# Altium integrated library NSC LDO.IntLib: 1202 symbols (part 10 of 27)
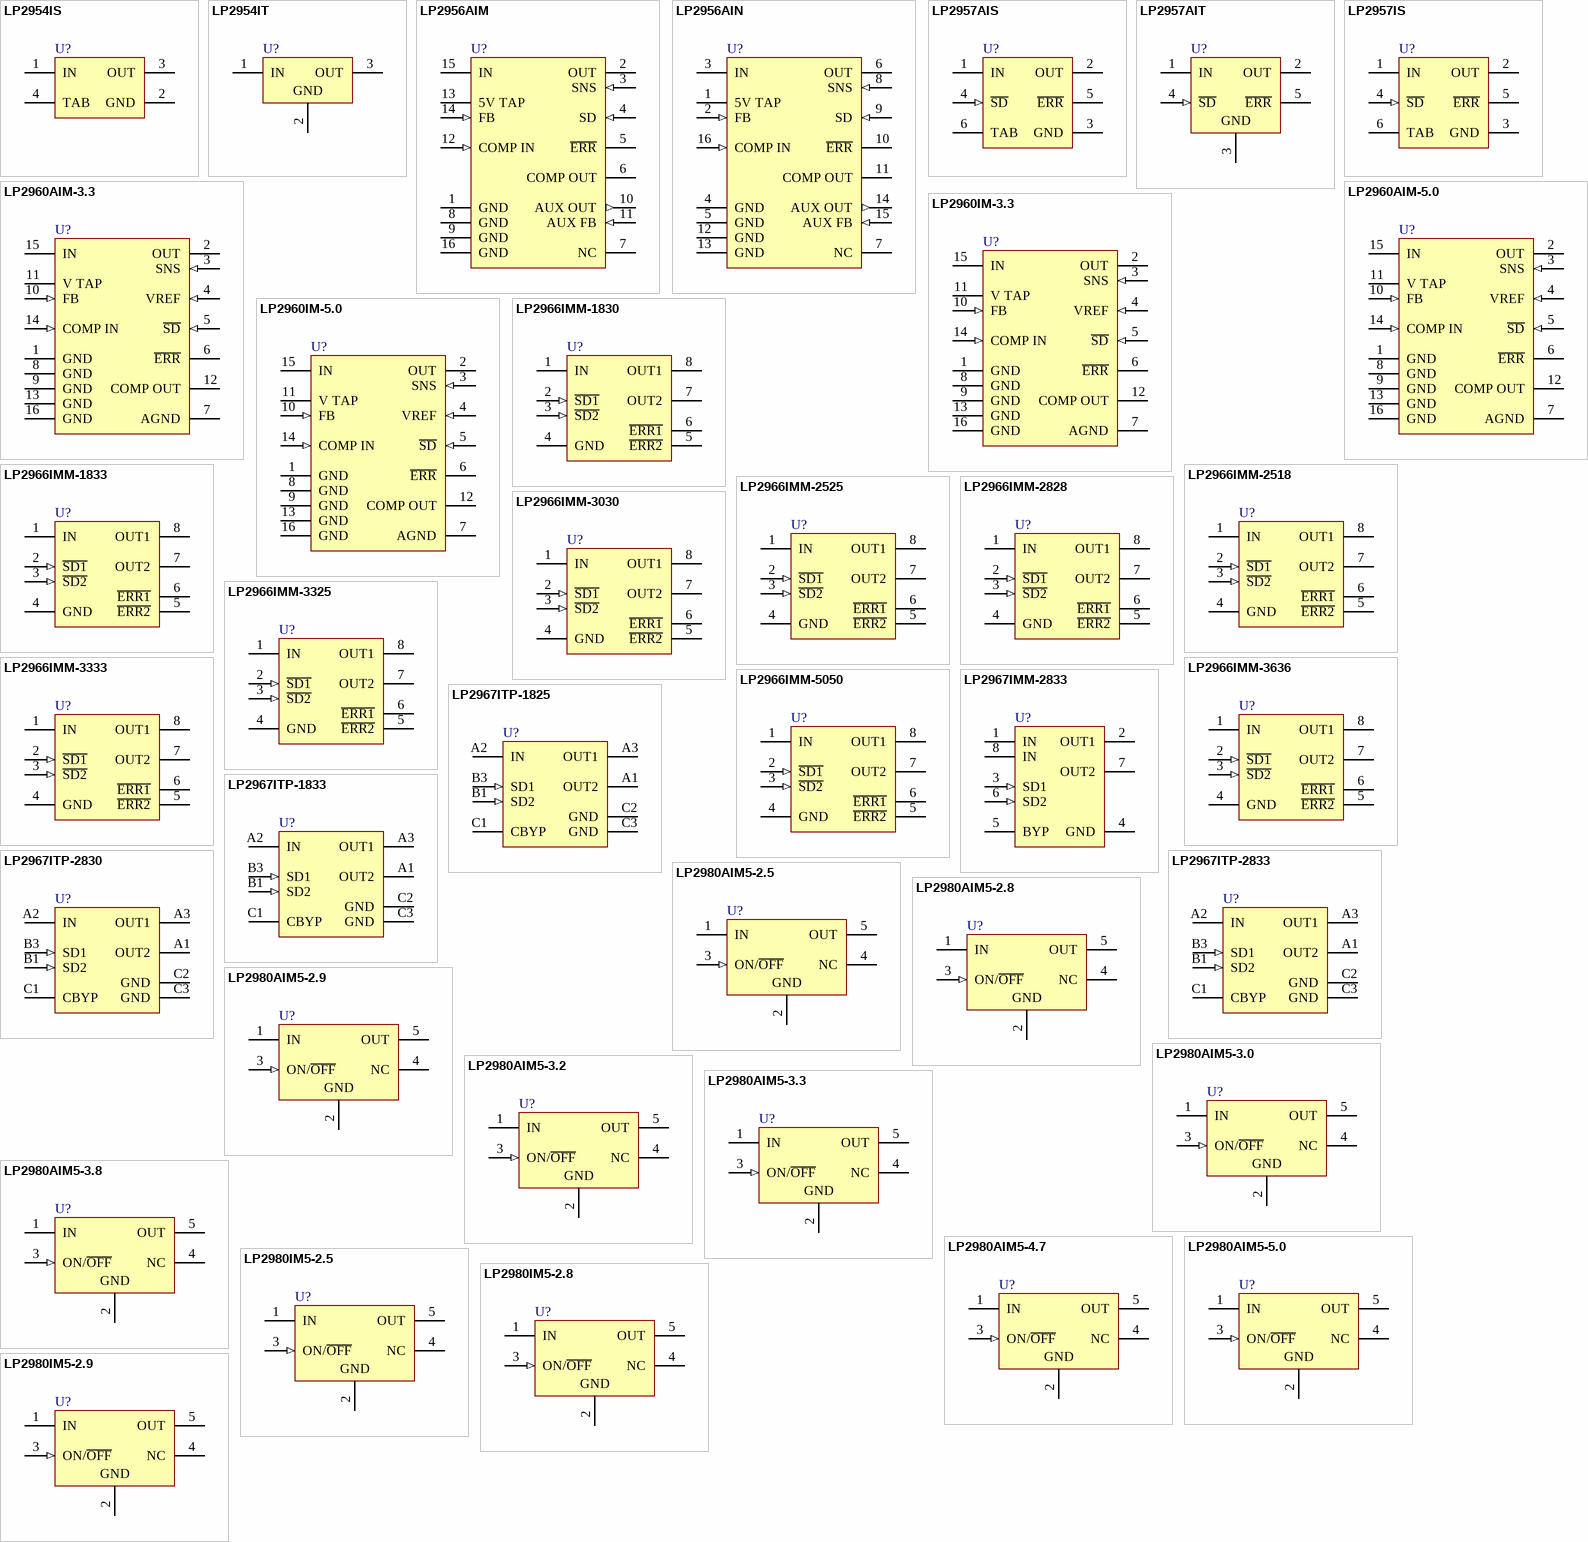
[diagram p39: symbols LP2954IS to LP2980IM5-2.9]

## LP2967ITP-2830
designator U?
Dual Micropower 150 mA Low-Dropout Regulator in micro SMD Package; PartNumber: LP2967ITP-2830; Manufacturer: National Semiconductor; CompType: LDO IC; PackageTopMarking: XVL*I 22; Published: 4-Dec-2008; DatasheetVersion: Jun-2005; PackageVersion: revA, Mar-2002; PackageReference: TPA08F5A; Publisher: Altium Limited; PackageDescription: Thin Micro SMD, 8 Bump, 0.5mm Pitch; RoHS: Y; PinCount: 8; DigiKeyPartNumber: LP2967ITP-2830CT-ND; Code_JEDEC: MO-211-BC; ComponentLink1Description: LP2967 Datasheet; ComponentLink1URL: http://www.national.com/ds/LP/LP2967.pdf; ComponentLink2Description: LP2967 Web Page; ComponentLink2URL: http://www.national.com/pf/LP/LP2967.html; ComponentLink3Description: TPA08F5A Package Page; ComponentLink3URL: http://www.national.com/packaging/folders/tpa08f5a.html
footprint TPA08F5A (Micro SMD, 8-Leads, Body 1.95x1.41mm, Pitch 0.5mm, NSC Recommended)
pins: A1 OUT2 (power), A2 IN (power), A3 OUT1 (power), B1 SD2 (in), B3 SD1 (in), C1 CBYP, C2 GND (power), C3 GND (power)

## LP2967ITP-2833
designator U?
Dual Micropower 150 mA Low-Dropout Regulator in micro SMD Package; PartNumber: LP2967ITP-2833; Manufacturer: National Semiconductor; CompType: LDO IC; PackageTopMarking: XVL*I 09; Published: 4-Dec-2008; DatasheetVersion: Jun-2005; PackageVersion: revA, Mar-2002; PackageReference: TPA08F5A; Publisher: Altium Limited; PackageDescription: Thin Micro SMD, 8 Bump, 0.5mm Pitch; RoHS: Y; PinCount: 8; DigiKeyPartNumber: LP2967ITP-2833CT-ND; Code_JEDEC: MO-211-BC; ComponentLink1Description: LP2967 Datasheet; ComponentLink1URL: http://www.national.com/ds/LP/LP2967.pdf; ComponentLink2Description: LP2967 Web Page; ComponentLink2URL: http://www.national.com/pf/LP/LP2967.html; ComponentLink3Description: TPA08F5A Package Page; ComponentLink3URL: http://www.national.com/packaging/folders/tpa08f5a.html
footprint TPA08F5A (Micro SMD, 8-Leads, Body 1.95x1.41mm, Pitch 0.5mm, NSC Recommended)
pins: A1 OUT2 (power), A2 IN (power), A3 OUT1 (power), B1 SD2 (in), B3 SD1 (in), C1 CBYP, C2 GND (power), C3 GND (power)

## LP2980AIM5-2.5
designator U?
Micropower 50 mA Ultra Low-Dropout Regulator In SOT-23 and micro SMD Packages; PartNumber: LP2980AIM5-2.5; Manufacturer: National Semiconductor; CompType: LDO IC; PackageTopMarking: L0NA*XTT; Published: 4-Dec-2008; DatasheetVersion: Sep-2006; PackageVersion: revD, Aug-2008; PackageReference: MF05A; Publisher: Altium Limited; PackageDescription: Molded SOT-23, .115 x .063 x .040 in Body, 5 Lead, .0375 in Pitch; RoHS: O; PinCount: 5; DigiKeyPartNumber: LP2980AIM5-2.5CT-ND; Code_IPC: SOT23-5; ComponentLink1Description: LP2980 Datasheet; ComponentLink1URL: http://www.national.com/ds/LP/LP2980.pdf; ComponentLink2Description: LP2980 Web Page; ComponentLink2URL: http://www.national.com/pf/LP/LP2980.html; ComponentLink3Description: MF05A Package Page; ComponentLink3URL: http://www.national.com/packaging/folders/mf05a.html
footprint MF05A_N (SOT23, 5-Leads, Body 2.9x1.6mm, Pitch 0.95mm, Lead Span 2.8mm, IPC Medium Density)
footprint MF05A_L (SOT23, 5-Leads, Body 2.9x1.6mm, Pitch 0.95mm, Lead Span 2.8mm, IPC High Density)
footprint MF05A_M (SOT23, 5-Leads, Body 2.9x1.6mm, Pitch 0.95mm, Lead Span 2.8mm, IPC Low Density)
pins: 1 IN (power), 2 GND (power), 3 ON/~{OFF} (in), 4 NC, 5 OUT (power)

## LP2980AIM5-2.8
designator U?
Micropower 50 mA Ultra Low-Dropout Regulator In SOT-23 and micro SMD Packages; PartNumber: LP2980AIM5-2.8; Manufacturer: National Semiconductor; CompType: LDO IC; PackageTopMarking: L13A*XTT; Published: 4-Dec-2008; DatasheetVersion: Sep-2006; PackageVersion: revD, Aug-2008; PackageReference: MF05A; Publisher: Altium Limited; PackageDescription: Molded SOT-23, .115 x .063 x .040 in Body, 5 Lead, .0375 in Pitch; RoHS: Y; PinCount: 5; DigiKeyPartNumber: LP2980AIM5-2.8-ND; Code_IPC: SOT23-5; ComponentLink1Description: LP2980 Datasheet; ComponentLink1URL: http://www.national.com/ds/LP/LP2980.pdf; ComponentLink2Description: LP2980 Web Page; ComponentLink2URL: http://www.national.com/pf/LP/LP2980.html; ComponentLink3Description: MF05A Package Page; ComponentLink3URL: http://www.national.com/packaging/folders/mf05a.html
footprint MF05A_N (SOT23, 5-Leads, Body 2.9x1.6mm, Pitch 0.95mm, Lead Span 2.8mm, IPC Medium Density)
footprint MF05A_L (SOT23, 5-Leads, Body 2.9x1.6mm, Pitch 0.95mm, Lead Span 2.8mm, IPC High Density)
footprint MF05A_M (SOT23, 5-Leads, Body 2.9x1.6mm, Pitch 0.95mm, Lead Span 2.8mm, IPC Low Density)
pins: 1 IN (power), 2 GND (power), 3 ON/~{OFF} (in), 4 NC, 5 OUT (power)

## LP2980AIM5-2.9
designator U?
Micropower 50 mA Ultra Low-Dropout Regulator In SOT-23 and micro SMD Packages; PartNumber: LP2980AIM5-2.9; Manufacturer: National Semiconductor; CompType: LDO IC; PackageTopMarking: L12A*XTT; Published: 4-Dec-2008; DatasheetVersion: Sep-2006; PackageVersion: revD, Aug-2008; PackageReference: MF05A; Publisher: Altium Limited; PackageDescription: Molded SOT-23, .115 x .063 x .040 in Body, 5 Lead, .0375 in Pitch; RoHS: Y; PinCount: 5; DigiKeyPartNumber: LP2980AIM5-2.9-ND; Code_IPC: SOT23-5; ComponentLink1Description: LP2980 Datasheet; ComponentLink1URL: http://www.national.com/ds/LP/LP2980.pdf; ComponentLink2Description: LP2980 Web Page; ComponentLink2URL: http://www.national.com/pf/LP/LP2980.html; ComponentLink3Description: MF05A Package Page; ComponentLink3URL: http://www.national.com/packaging/folders/mf05a.html
footprint MF05A_N (SOT23, 5-Leads, Body 2.9x1.6mm, Pitch 0.95mm, Lead Span 2.8mm, IPC Medium Density)
footprint MF05A_L (SOT23, 5-Leads, Body 2.9x1.6mm, Pitch 0.95mm, Lead Span 2.8mm, IPC High Density)
footprint MF05A_M (SOT23, 5-Leads, Body 2.9x1.6mm, Pitch 0.95mm, Lead Span 2.8mm, IPC Low Density)
pins: 1 IN (power), 2 GND (power), 3 ON/~{OFF} (in), 4 NC, 5 OUT (power)

## LP2980AIM5-3.0
designator U?
Micropower 50 mA Ultra Low-Dropout Regulator In SOT-23 and micro SMD Packages; PartNumber: LP2980AIM5-3.0; Manufacturer: National Semiconductor; CompType: LDO IC; PackageTopMarking: L02A*XTT; Published: 4-Dec-2008; DatasheetVersion: Sep-2006; PackageVersion: revD, Aug-2008; PackageReference: MF05A; Publisher: Altium Limited; PackageDescription: Molded SOT-23, .115 x .063 x .040 in Body, 5 Lead, .0375 in Pitch; RoHS: O; PinCount: 5; DigiKeyPartNumber: LP2980AIM5-3.0CT-ND; Code_IPC: SOT23-5; ComponentLink1Description: LP2980 Datasheet; ComponentLink1URL: http://www.national.com/ds/LP/LP2980.pdf; ComponentLink2Description: LP2980 Web Page; ComponentLink2URL: http://www.national.com/pf/LP/LP2980.html; ComponentLink3Description: MF05A Package Page; ComponentLink3URL: http://www.national.com/packaging/folders/mf05a.html
footprint MF05A_N (SOT23, 5-Leads, Body 2.9x1.6mm, Pitch 0.95mm, Lead Span 2.8mm, IPC Medium Density)
footprint MF05A_L (SOT23, 5-Leads, Body 2.9x1.6mm, Pitch 0.95mm, Lead Span 2.8mm, IPC High Density)
footprint MF05A_M (SOT23, 5-Leads, Body 2.9x1.6mm, Pitch 0.95mm, Lead Span 2.8mm, IPC Low Density)
pins: 1 IN (power), 2 GND (power), 3 ON/~{OFF} (in), 4 NC, 5 OUT (power)

## LP2980AIM5-3.2
designator U?
Micropower 50 mA Ultra Low-Dropout Regulator In SOT-23 and micro SMD Packages; PartNumber: LP2980AIM5-3.2; Manufacturer: National Semiconductor; CompType: LDO IC; PackageTopMarking: L31A*XTT; Published: 4-Dec-2008; DatasheetVersion: Sep-2006; PackageVersion: revD, Aug-2008; PackageReference: MF05A; Publisher: Altium Limited; PackageDescription: Molded SOT-23, .115 x .063 x .040 in Body, 5 Lead, .0375 in Pitch; RoHS: Y; PinCount: 5; DigiKeyPartNumber: LP2980AIM5-3.2-ND; Code_IPC: SOT23-5; ComponentLink1Description: LP2980 Datasheet; ComponentLink1URL: http://www.national.com/ds/LP/LP2980.pdf; ComponentLink2Description: LP2980 Web Page; ComponentLink2URL: http://www.national.com/pf/LP/LP2980.html; ComponentLink3Description: MF05A Package Page; ComponentLink3URL: http://www.national.com/packaging/folders/mf05a.html
footprint MF05A_N (SOT23, 5-Leads, Body 2.9x1.6mm, Pitch 0.95mm, Lead Span 2.8mm, IPC Medium Density)
footprint MF05A_L (SOT23, 5-Leads, Body 2.9x1.6mm, Pitch 0.95mm, Lead Span 2.8mm, IPC High Density)
footprint MF05A_M (SOT23, 5-Leads, Body 2.9x1.6mm, Pitch 0.95mm, Lead Span 2.8mm, IPC Low Density)
pins: 1 IN (power), 2 GND (power), 3 ON/~{OFF} (in), 4 NC, 5 OUT (power)

## LP2980AIM5-3.3
designator U?
Micropower 50 mA Ultra Low-Dropout Regulator In SOT-23 and micro SMD Packages; PartNumber: LP2980AIM5-3.3; Manufacturer: National Semiconductor; CompType: LDO IC; PackageTopMarking: L00A*XTT; Published: 4-Dec-2008; DatasheetVersion: Sep-2006; PackageVersion: revD, Aug-2008; PackageReference: MF05A; Publisher: Altium Limited; PackageDescription: Molded SOT-23, .115 x .063 x .040 in Body, 5 Lead, .0375 in Pitch; RoHS: O; PinCount: 5; DigiKeyPartNumber: LP2980AIM5-3.3CT-ND; Code_IPC: SOT23-5; ComponentLink1Description: LP2980 Datasheet; ComponentLink1URL: http://www.national.com/ds/LP/LP2980.pdf; ComponentLink2Description: LP2980 Web Page; ComponentLink2URL: http://www.national.com/pf/LP/LP2980.html; ComponentLink3Description: MF05A Package Page; ComponentLink3URL: http://www.national.com/packaging/folders/mf05a.html
footprint MF05A_N (SOT23, 5-Leads, Body 2.9x1.6mm, Pitch 0.95mm, Lead Span 2.8mm, IPC Medium Density)
footprint MF05A_L (SOT23, 5-Leads, Body 2.9x1.6mm, Pitch 0.95mm, Lead Span 2.8mm, IPC High Density)
footprint MF05A_M (SOT23, 5-Leads, Body 2.9x1.6mm, Pitch 0.95mm, Lead Span 2.8mm, IPC Low Density)
pins: 1 IN (power), 2 GND (power), 3 ON/~{OFF} (in), 4 NC, 5 OUT (power)

## LP2980AIM5-3.8
designator U?
Micropower 50 mA Ultra Low-Dropout Regulator In SOT-23 and micro SMD Packages; PartNumber: LP2980AIM5-3.8; Manufacturer: National Semiconductor; CompType: LDO IC; PackageTopMarking: L21A*XTT; Published: 4-Dec-2008; DatasheetVersion: Sep-2006; PackageVersion: revD, Aug-2008; PackageReference: MF05A; Publisher: Altium Limited; PackageDescription: Molded SOT-23, .115 x .063 x .040 in Body, 5 Lead, .0375 in Pitch; RoHS: Y; PinCount: 5; DigiKeyPartNumber: LP2980AIM5-3.8-ND; Code_IPC: SOT23-5; ComponentLink1Description: LP2980 Datasheet; ComponentLink1URL: http://www.national.com/ds/LP/LP2980.pdf; ComponentLink2Description: LP2980 Web Page; ComponentLink2URL: http://www.national.com/pf/LP/LP2980.html; ComponentLink3Description: MF05A Package Page; ComponentLink3URL: http://www.national.com/packaging/folders/mf05a.html
footprint MF05A_N (SOT23, 5-Leads, Body 2.9x1.6mm, Pitch 0.95mm, Lead Span 2.8mm, IPC Medium Density)
footprint MF05A_L (SOT23, 5-Leads, Body 2.9x1.6mm, Pitch 0.95mm, Lead Span 2.8mm, IPC High Density)
footprint MF05A_M (SOT23, 5-Leads, Body 2.9x1.6mm, Pitch 0.95mm, Lead Span 2.8mm, IPC Low Density)
pins: 1 IN (power), 2 GND (power), 3 ON/~{OFF} (in), 4 NC, 5 OUT (power)

## LP2980AIM5-4.7
designator U?
Micropower 50 mA Ultra Low-Dropout Regulator In SOT-23 and micro SMD Packages; PartNumber: LP2980AIM5-4.7; Manufacturer: National Semiconductor; CompType: LDO IC; PackageTopMarking: L37A*XTT; Published: 4-Dec-2008; DatasheetVersion: Sep-2006; PackageVersion: revD, Aug-2008; PackageReference: MF05A; Publisher: Altium Limited; PackageDescription: Molded SOT-23, .115 x .063 x .040 in Body, 5 Lead, .0375 in Pitch; RoHS: Y; PinCount: 5; DigiKeyPartNumber: LP2980AIM5-4.7-ND; Code_IPC: SOT23-5; ComponentLink1Description: LP2980 Datasheet; ComponentLink1URL: http://www.national.com/ds/LP/LP2980.pdf; ComponentLink2Description: LP2980 Web Page; ComponentLink2URL: http://www.national.com/pf/LP/LP2980.html; ComponentLink3Description: MF05A Package Page; ComponentLink3URL: http://www.national.com/packaging/folders/mf05a.html
footprint MF05A_N (SOT23, 5-Leads, Body 2.9x1.6mm, Pitch 0.95mm, Lead Span 2.8mm, IPC Medium Density)
footprint MF05A_L (SOT23, 5-Leads, Body 2.9x1.6mm, Pitch 0.95mm, Lead Span 2.8mm, IPC High Density)
footprint MF05A_M (SOT23, 5-Leads, Body 2.9x1.6mm, Pitch 0.95mm, Lead Span 2.8mm, IPC Low Density)
pins: 1 IN (power), 2 GND (power), 3 ON/~{OFF} (in), 4 NC, 5 OUT (power)

## LP2980AIM5-5.0
designator U?
Micropower 50 mA Ultra Low-Dropout Regulator In SOT-23 and micro SMD Packages; PartNumber: LP2980AIM5-5.0; Manufacturer: National Semiconductor; CompType: LDO IC; PackageTopMarking: L01A*XTT; Published: 4-Dec-2008; DatasheetVersion: Sep-2006; PackageVersion: revD, Aug-2008; PackageReference: MF05A; Publisher: Altium Limited; PackageDescription: Molded SOT-23, .115 x .063 x .040 in Body, 5 Lead, .0375 in Pitch; RoHS: O; PinCount: 5; DigiKeyPartNumber: LP2980AIM5-5.0CT-ND; Code_IPC: SOT23-5; ComponentLink1Description: LP2980 Datasheet; ComponentLink1URL: http://www.national.com/ds/LP/LP2980.pdf; ComponentLink2Description: LP2980 Web Page; ComponentLink2URL: http://www.national.com/pf/LP/LP2980.html; ComponentLink3Description: MF05A Package Page; ComponentLink3URL: http://www.national.com/packaging/folders/mf05a.html
footprint MF05A_N (SOT23, 5-Leads, Body 2.9x1.6mm, Pitch 0.95mm, Lead Span 2.8mm, IPC Medium Density)
footprint MF05A_L (SOT23, 5-Leads, Body 2.9x1.6mm, Pitch 0.95mm, Lead Span 2.8mm, IPC High Density)
footprint MF05A_M (SOT23, 5-Leads, Body 2.9x1.6mm, Pitch 0.95mm, Lead Span 2.8mm, IPC Low Density)
pins: 1 IN (power), 2 GND (power), 3 ON/~{OFF} (in), 4 NC, 5 OUT (power)

## LP2980IM5-2.5
designator U?
Micropower 50 mA Ultra Low-Dropout Regulator In SOT-23 and micro SMD Packages; PartNumber: LP2980IM5-2.5; Manufacturer: National Semiconductor; CompType: LDO IC; PackageTopMarking: L0NB*XTT; Published: 4-Dec-2008; DatasheetVersion: Sep-2006; PackageVersion: revD, Aug-2008; PackageReference: MF05A; Publisher: Altium Limited; PackageDescription: Molded SOT-23, .115 x .063 x .040 in Body, 5 Lead, .0375 in Pitch; RoHS: Y; PinCount: 5; DigiKeyPartNumber: LP2980IM5-2.5CT-ND; Code_IPC: SOT23-5; ComponentLink1Description: LP2980 Datasheet; ComponentLink1URL: http://www.national.com/ds/LP/LP2980.pdf; ComponentLink2Description: LP2980 Web Page; ComponentLink2URL: http://www.national.com/pf/LP/LP2980.html; ComponentLink3Description: MF05A Package Page; ComponentLink3URL: http://www.national.com/packaging/folders/mf05a.html
footprint MF05A_N (SOT23, 5-Leads, Body 2.9x1.6mm, Pitch 0.95mm, Lead Span 2.8mm, IPC Medium Density)
footprint MF05A_L (SOT23, 5-Leads, Body 2.9x1.6mm, Pitch 0.95mm, Lead Span 2.8mm, IPC High Density)
footprint MF05A_M (SOT23, 5-Leads, Body 2.9x1.6mm, Pitch 0.95mm, Lead Span 2.8mm, IPC Low Density)
pins: 1 IN (power), 2 GND (power), 3 ON/~{OFF} (in), 4 NC, 5 OUT (power)

## LP2980IM5-2.8
designator U?
Micropower 50 mA Ultra Low-Dropout Regulator In SOT-23 and micro SMD Packages; PartNumber: LP2980IM5-2.8; Manufacturer: National Semiconductor; CompType: LDO IC; PackageTopMarking: L13B*XTT; Published: 4-Dec-2008; DatasheetVersion: Sep-2006; PackageVersion: revD, Aug-2008; PackageReference: MF05A; Publisher: Altium Limited; PackageDescription: Molded SOT-23, .115 x .063 x .040 in Body, 5 Lead, .0375 in Pitch; RoHS: Y; PinCount: 5; DigiKeyPartNumber: LP2980IM5-2.8-ND; Code_IPC: SOT23-5; ComponentLink1Description: LP2980 Datasheet; ComponentLink1URL: http://www.national.com/ds/LP/LP2980.pdf; ComponentLink2Description: LP2980 Web Page; ComponentLink2URL: http://www.national.com/pf/LP/LP2980.html; ComponentLink3Description: MF05A Package Page; ComponentLink3URL: http://www.national.com/packaging/folders/mf05a.html
footprint MF05A_N (SOT23, 5-Leads, Body 2.9x1.6mm, Pitch 0.95mm, Lead Span 2.8mm, IPC Medium Density)
footprint MF05A_L (SOT23, 5-Leads, Body 2.9x1.6mm, Pitch 0.95mm, Lead Span 2.8mm, IPC High Density)
footprint MF05A_M (SOT23, 5-Leads, Body 2.9x1.6mm, Pitch 0.95mm, Lead Span 2.8mm, IPC Low Density)
pins: 1 IN (power), 2 GND (power), 3 ON/~{OFF} (in), 4 NC, 5 OUT (power)

## LP2980IM5-2.9
designator U?
Micropower 50 mA Ultra Low-Dropout Regulator In SOT-23 and micro SMD Packages; PartNumber: LP2980IM5-2.9; Manufacturer: National Semiconductor; CompType: LDO IC; PackageTopMarking: L12B*XTT; Published: 4-Dec-2008; DatasheetVersion: Sep-2006; PackageVersion: revD, Aug-2008; PackageReference: MF05A; Publisher: Altium Limited; PackageDescription: Molded SOT-23, .115 x .063 x .040 in Body, 5 Lead, .0375 in Pitch; RoHS: Y; PinCount: 5; DigiKeyPartNumber: LP2980IM5-2.9-ND; Code_IPC: SOT23-5; ComponentLink1Description: LP2980 Datasheet; ComponentLink1URL: http://www.national.com/ds/LP/LP2980.pdf; ComponentLink2Description: LP2980 Web Page; ComponentLink2URL: http://www.national.com/pf/LP/LP2980.html; ComponentLink3Description: MF05A Package Page; ComponentLink3URL: http://www.national.com/packaging/folders/mf05a.html
footprint MF05A_N (SOT23, 5-Leads, Body 2.9x1.6mm, Pitch 0.95mm, Lead Span 2.8mm, IPC Medium Density)
footprint MF05A_L (SOT23, 5-Leads, Body 2.9x1.6mm, Pitch 0.95mm, Lead Span 2.8mm, IPC High Density)
footprint MF05A_M (SOT23, 5-Leads, Body 2.9x1.6mm, Pitch 0.95mm, Lead Span 2.8mm, IPC Low Density)
pins: 1 IN (power), 2 GND (power), 3 ON/~{OFF} (in), 4 NC, 5 OUT (power)

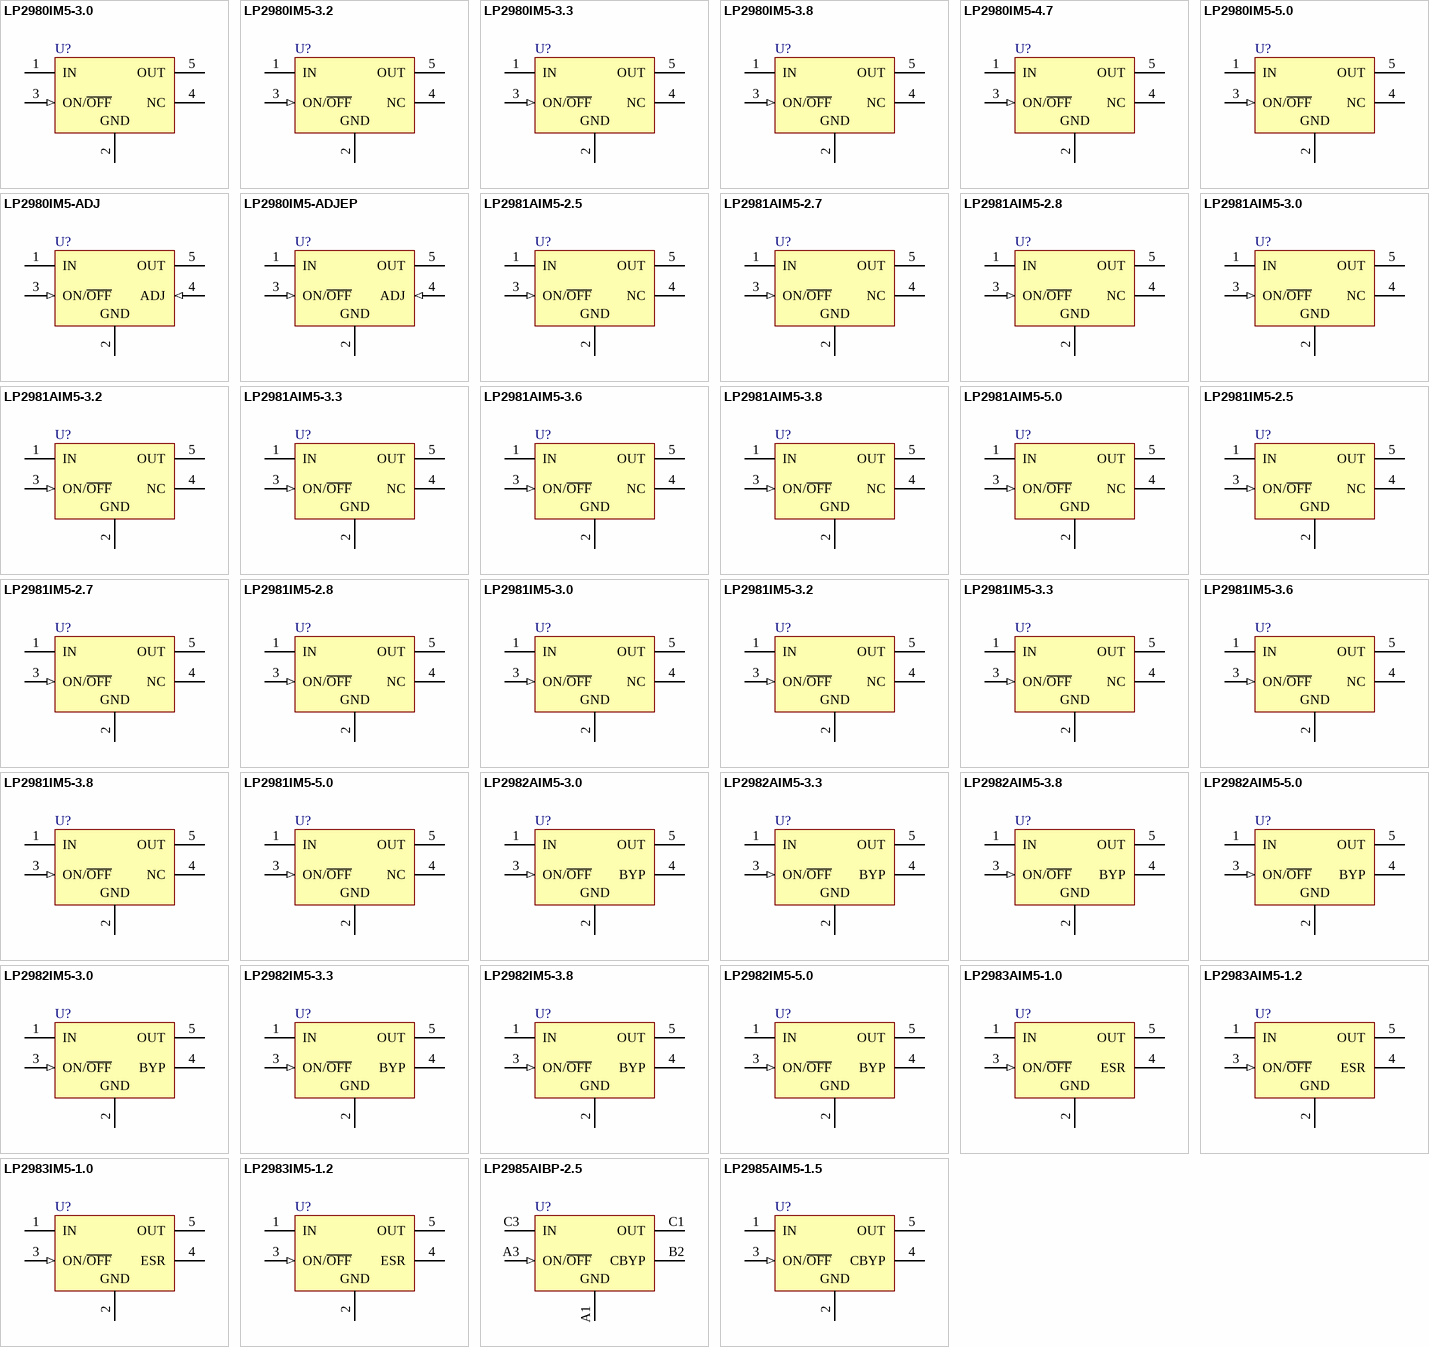
[diagram p11: symbols LP2980IM5-3.0 to LP2985AIM5-1.5]

## LP2980IM5-3.0
designator U?
Micropower 50 mA Ultra Low-Dropout Regulator In SOT-23 and micro SMD Packages; PartNumber: LP2980IM5-3.0; Manufacturer: National Semiconductor; CompType: LDO IC; PackageTopMarking: L02B*XTT; Published: 4-Dec-2008; DatasheetVersion: Sep-2006; PackageVersion: revD, Aug-2008; PackageReference: MF05A; Publisher: Altium Limited; PackageDescription: Molded SOT-23, .115 x .063 x .040 in Body, 5 Lead, .0375 in Pitch; RoHS: O; PinCount: 5; DigiKeyPartNumber: LP2980IM5-3.0CT-ND; Code_IPC: SOT23-5; ComponentLink1Description: LP2980 Datasheet; ComponentLink1URL: http://www.national.com/ds/LP/LP2980.pdf; ComponentLink2Description: LP2980 Web Page; ComponentLink2URL: http://www.national.com/pf/LP/LP2980.html; ComponentLink3Description: MF05A Package Page; ComponentLink3URL: http://www.national.com/packaging/folders/mf05a.html
footprint MF05A_N (SOT23, 5-Leads, Body 2.9x1.6mm, Pitch 0.95mm, Lead Span 2.8mm, IPC Medium Density)
footprint MF05A_L (SOT23, 5-Leads, Body 2.9x1.6mm, Pitch 0.95mm, Lead Span 2.8mm, IPC High Density)
footprint MF05A_M (SOT23, 5-Leads, Body 2.9x1.6mm, Pitch 0.95mm, Lead Span 2.8mm, IPC Low Density)
pins: 1 IN (power), 2 GND (power), 3 ON/~{OFF} (in), 4 NC, 5 OUT (power)

## LP2980IM5-3.2
designator U?
Micropower 50 mA Ultra Low-Dropout Regulator In SOT-23 and micro SMD Packages; PartNumber: LP2980IM5-3.2; Manufacturer: National Semiconductor; CompType: LDO IC; PackageTopMarking: L31B*XTT; Published: 4-Dec-2008; DatasheetVersion: Sep-2006; PackageVersion: revD, Aug-2008; PackageReference: MF05A; Publisher: Altium Limited; PackageDescription: Molded SOT-23, .115 x .063 x .040 in Body, 5 Lead, .0375 in Pitch; RoHS: Y; PinCount: 5; DigiKeyPartNumber: LP2980IM5-3.2-ND; Code_IPC: SOT23-5; ComponentLink1Description: LP2980 Datasheet; ComponentLink1URL: http://www.national.com/ds/LP/LP2980.pdf; ComponentLink2Description: LP2980 Web Page; ComponentLink2URL: http://www.national.com/pf/LP/LP2980.html; ComponentLink3Description: MF05A Package Page; ComponentLink3URL: http://www.national.com/packaging/folders/mf05a.html
footprint MF05A_N (SOT23, 5-Leads, Body 2.9x1.6mm, Pitch 0.95mm, Lead Span 2.8mm, IPC Medium Density)
footprint MF05A_L (SOT23, 5-Leads, Body 2.9x1.6mm, Pitch 0.95mm, Lead Span 2.8mm, IPC High Density)
footprint MF05A_M (SOT23, 5-Leads, Body 2.9x1.6mm, Pitch 0.95mm, Lead Span 2.8mm, IPC Low Density)
pins: 1 IN (power), 2 GND (power), 3 ON/~{OFF} (in), 4 NC, 5 OUT (power)

## LP2980IM5-3.3
designator U?
Micropower 50 mA Ultra Low-Dropout Regulator In SOT-23 and micro SMD Packages; PartNumber: LP2980IM5-3.3; Manufacturer: National Semiconductor; CompType: LDO IC; PackageTopMarking: L00B*XTT; Published: 4-Dec-2008; DatasheetVersion: Sep-2006; PackageVersion: revD, Aug-2008; PackageReference: MF05A; Publisher: Altium Limited; PackageDescription: Molded SOT-23, .115 x .063 x .040 in Body, 5 Lead, .0375 in Pitch; RoHS: O; PinCount: 5; DigiKeyPartNumber: LP2980IM5-3.3CT-ND; Code_IPC: SOT23-5; ComponentLink1Description: LP2980 Datasheet; ComponentLink1URL: http://www.national.com/ds/LP/LP2980.pdf; ComponentLink2Description: LP2980 Web Page; ComponentLink2URL: http://www.national.com/pf/LP/LP2980.html; ComponentLink3Description: MF05A Package Page; ComponentLink3URL: http://www.national.com/packaging/folders/mf05a.html
footprint MF05A_N (SOT23, 5-Leads, Body 2.9x1.6mm, Pitch 0.95mm, Lead Span 2.8mm, IPC Medium Density)
footprint MF05A_L (SOT23, 5-Leads, Body 2.9x1.6mm, Pitch 0.95mm, Lead Span 2.8mm, IPC High Density)
footprint MF05A_M (SOT23, 5-Leads, Body 2.9x1.6mm, Pitch 0.95mm, Lead Span 2.8mm, IPC Low Density)
pins: 1 IN (power), 2 GND (power), 3 ON/~{OFF} (in), 4 NC, 5 OUT (power)

## LP2980IM5-3.8
designator U?
Micropower 50 mA Ultra Low-Dropout Regulator In SOT-23 and micro SMD Packages; PartNumber: LP2980IM5-3.8; Manufacturer: National Semiconductor; CompType: LDO IC; PackageTopMarking: L21B*XTT; Published: 4-Dec-2008; DatasheetVersion: Sep-2006; PackageVersion: revD, Aug-2008; PackageReference: MF05A; Publisher: Altium Limited; PackageDescription: Molded SOT-23, .115 x .063 x .040 in Body, 5 Lead, .0375 in Pitch; RoHS: Y; PinCount: 5; DigiKeyPartNumber: LP2980IM5-3.8-ND; Code_IPC: SOT23-5; ComponentLink1Description: LP2980 Datasheet; ComponentLink1URL: http://www.national.com/ds/LP/LP2980.pdf; ComponentLink2Description: LP2980 Web Page; ComponentLink2URL: http://www.national.com/pf/LP/LP2980.html; ComponentLink3Description: MF05A Package Page; ComponentLink3URL: http://www.national.com/packaging/folders/mf05a.html
footprint MF05A_N (SOT23, 5-Leads, Body 2.9x1.6mm, Pitch 0.95mm, Lead Span 2.8mm, IPC Medium Density)
footprint MF05A_L (SOT23, 5-Leads, Body 2.9x1.6mm, Pitch 0.95mm, Lead Span 2.8mm, IPC High Density)
footprint MF05A_M (SOT23, 5-Leads, Body 2.9x1.6mm, Pitch 0.95mm, Lead Span 2.8mm, IPC Low Density)
pins: 1 IN (power), 2 GND (power), 3 ON/~{OFF} (in), 4 NC, 5 OUT (power)

## LP2980IM5-4.7
designator U?
Micropower 50 mA Ultra Low-Dropout Regulator In SOT-23 and micro SMD Packages; PartNumber: LP2980IM5-4.7; Manufacturer: National Semiconductor; CompType: LDO IC; PackageTopMarking: L37B*XTT; Published: 4-Dec-2008; DatasheetVersion: Sep-2006; PackageVersion: revD, Aug-2008; PackageReference: MF05A; Publisher: Altium Limited; PackageDescription: Molded SOT-23, .115 x .063 x .040 in Body, 5 Lead, .0375 in Pitch; RoHS: Y; PinCount: 5; DigiKeyPartNumber: LP2980IM5-4.7-ND; Code_IPC: SOT23-5; ComponentLink1Description: LP2980 Datasheet; ComponentLink1URL: http://www.national.com/ds/LP/LP2980.pdf; ComponentLink2Description: LP2980 Web Page; ComponentLink2URL: http://www.national.com/pf/LP/LP2980.html; ComponentLink3Description: MF05A Package Page; ComponentLink3URL: http://www.national.com/packaging/folders/mf05a.html
footprint MF05A_N (SOT23, 5-Leads, Body 2.9x1.6mm, Pitch 0.95mm, Lead Span 2.8mm, IPC Medium Density)
footprint MF05A_L (SOT23, 5-Leads, Body 2.9x1.6mm, Pitch 0.95mm, Lead Span 2.8mm, IPC High Density)
footprint MF05A_M (SOT23, 5-Leads, Body 2.9x1.6mm, Pitch 0.95mm, Lead Span 2.8mm, IPC Low Density)
pins: 1 IN (power), 2 GND (power), 3 ON/~{OFF} (in), 4 NC, 5 OUT (power)

## LP2980IM5-5.0
designator U?
Micropower 50 mA Ultra Low-Dropout Regulator In SOT-23 and micro SMD Packages; PartNumber: LP2980IM5-5.0; Manufacturer: National Semiconductor; CompType: LDO IC; PackageTopMarking: L01B*XTT; Published: 4-Dec-2008; DatasheetVersion: Sep-2006; PackageVersion: revD, Aug-2008; PackageReference: MF05A; Publisher: Altium Limited; PackageDescription: Molded SOT-23, .115 x .063 x .040 in Body, 5 Lead, .0375 in Pitch; RoHS: O; PinCount: 5; DigiKeyPartNumber: LP2980IM5-5.0CT-ND; Code_IPC: SOT23-5; ComponentLink1Description: LP2980 Datasheet; ComponentLink1URL: http://www.national.com/ds/LP/LP2980.pdf; ComponentLink2Description: LP2980 Web Page; ComponentLink2URL: http://www.national.com/pf/LP/LP2980.html; ComponentLink3Description: MF05A Package Page; ComponentLink3URL: http://www.national.com/packaging/folders/mf05a.html
footprint MF05A_N (SOT23, 5-Leads, Body 2.9x1.6mm, Pitch 0.95mm, Lead Span 2.8mm, IPC Medium Density)
footprint MF05A_L (SOT23, 5-Leads, Body 2.9x1.6mm, Pitch 0.95mm, Lead Span 2.8mm, IPC High Density)
footprint MF05A_M (SOT23, 5-Leads, Body 2.9x1.6mm, Pitch 0.95mm, Lead Span 2.8mm, IPC Low Density)
pins: 1 IN (power), 2 GND (power), 3 ON/~{OFF} (in), 4 NC, 5 OUT (power)

## LP2980IM5-ADJ
designator U?
Micropower 50 mA Ultra Low-Dropout Regulator In SOT-23 and micro SMD Packages; PartNumber: LP2980IM5-ADJ; Manufacturer: National Semiconductor; CompType: LDO IC; PackageTopMarking: L06B*XTT; Published: 4-Dec-2008; DatasheetVersion: Sep-2006; PackageVersion: revD, Aug-2008; PackageReference: MF05A; Publisher: Altium Limited; PackageDescription: Molded SOT-23, .115 x .063 x .040 in Body, 5 Lead, .0375 in Pitch; RoHS: O; PinCount: 5; DigiKeyPartNumber: LP2980IM5-ADJCT-ND; Code_IPC: SOT23-5; ComponentLink1Description: LP2980-ADJ Datasheet; ComponentLink1URL: http://www.national.com/ds/LP/LP2980-ADJ.pdf; ComponentLink2Description: LP2980-ADJ Web Page; ComponentLink2URL: http://www.national.com/pf/LP/LP2980-ADJ.html; ComponentLink3Description: MF05A Package Page; ComponentLink3URL: http://www.national.com/packaging/folders/mf05a.html
footprint MF05A_N (SOT23, 5-Leads, Body 2.9x1.6mm, Pitch 0.95mm, Lead Span 2.8mm, IPC Medium Density)
footprint MF05A_L (SOT23, 5-Leads, Body 2.9x1.6mm, Pitch 0.95mm, Lead Span 2.8mm, IPC High Density)
footprint MF05A_M (SOT23, 5-Leads, Body 2.9x1.6mm, Pitch 0.95mm, Lead Span 2.8mm, IPC Low Density)
pins: 1 IN (power), 2 GND (power), 3 ON/~{OFF} (in), 4 ADJ (in), 5 OUT (power)

## LP2980IM5-ADJEP
designator U?
Micropower 50 mA Ultra Low-Dropout Regulator In SOT-23 and micro SMD Packages; PartNumber: LP2980IM5-ADJEP; Manufacturer: National Semiconductor; CompType: LDO IC; PackageTopMarking: L06J*XTT; Published: 4-Dec-2008; DatasheetVersion: Dec-2006; PackageVersion: revD, Aug-2008; PackageReference: MF05A; Publisher: Altium Limited; PackageDescription: Molded SOT-23, .115 x .063 x .040 in Body, 5 Lead, .0375 in Pitch; RoHS: N; PinCount: 5; Code_IPC: SOT23-5; ComponentLink1Description: LP2980-ADJEP Datasheet; ComponentLink1URL: http://www.national.com/ds/LP/LP2980-ADJEP.pdf; ComponentLink2Description: LP2980-ADJEP Web Page; ComponentLink2URL: http://www.national.com/pf/LP/LP2980-ADJEP.html; ComponentLink3Description: MF05A Package Page; ComponentLink3URL: http://www.national.com/packaging/folders/mf05a.html
footprint MF05A_N (SOT23, 5-Leads, Body 2.9x1.6mm, Pitch 0.95mm, Lead Span 2.8mm, IPC Medium Density)
footprint MF05A_L (SOT23, 5-Leads, Body 2.9x1.6mm, Pitch 0.95mm, Lead Span 2.8mm, IPC High Density)
footprint MF05A_M (SOT23, 5-Leads, Body 2.9x1.6mm, Pitch 0.95mm, Lead Span 2.8mm, IPC Low Density)
pins: 1 IN (power), 2 GND (power), 3 ON/~{OFF} (in), 4 ADJ (in), 5 OUT (power)

## LP2981AIM5-2.5
designator U?
Micropower 100 mA Ultra Low-Dropout Regulator in SOT-23 and micro SMD Packages; PartNumber: LP2981AIM5-2.5; Manufacturer: National Semiconductor; CompType: LDO IC; PackageTopMarking: L0CA*XTT; Published: 4-Dec-2008; DatasheetVersion: Feb-2006; PackageVersion: revD, Aug-2008; PackageReference: MF05A; Publisher: Altium Limited; PackageDescription: Molded SOT-23, .115 x .063 x .040 in Body, 5 Lead, .0375 in Pitch; RoHS: O; PinCount: 5; DigiKeyPartNumber: LP2981AIM5-2.5CT-ND; Code_IPC: SOT23-5; ComponentLink1Description: LP2981 Datasheet; ComponentLink1URL: http://www.national.com/ds/LP/LP2981.pdf; ComponentLink2Description: LP2981 Web Page; ComponentLink2URL: http://www.national.com/pf/LP/LP2981.html; ComponentLink3Description: MF05A Package Page; ComponentLink3URL: http://www.national.com/packaging/folders/mf05a.html
footprint MF05A_N (SOT23, 5-Leads, Body 2.9x1.6mm, Pitch 0.95mm, Lead Span 2.8mm, IPC Medium Density)
footprint MF05A_L (SOT23, 5-Leads, Body 2.9x1.6mm, Pitch 0.95mm, Lead Span 2.8mm, IPC High Density)
footprint MF05A_M (SOT23, 5-Leads, Body 2.9x1.6mm, Pitch 0.95mm, Lead Span 2.8mm, IPC Low Density)
pins: 1 IN (power), 2 GND (power), 3 ON/~{OFF} (in), 4 NC, 5 OUT (power)

## LP2981AIM5-2.7
designator U?
Micropower 100 mA Ultra Low-Dropout Regulator in SOT-23 and micro SMD Packages; PartNumber: LP2981AIM5-2.7; Manufacturer: National Semiconductor; CompType: LDO IC; PackageTopMarking: L0DA*XTT; Published: 4-Dec-2008; DatasheetVersion: Feb-2006; PackageVersion: revD, Aug-2008; PackageReference: MF05A; Publisher: Altium Limited; PackageDescription: Molded SOT-23, .115 x .063 x .040 in Body, 5 Lead, .0375 in Pitch; RoHS: Y; PinCount: 5; DigiKeyPartNumber: LP2981AIM5-2.7CT-ND; Code_IPC: SOT23-5; ComponentLink1Description: LP2981 Datasheet; ComponentLink1URL: http://www.national.com/ds/LP/LP2981.pdf; ComponentLink2Description: LP2981 Web Page; ComponentLink2URL: http://www.national.com/pf/LP/LP2981.html; ComponentLink3Description: MF05A Package Page; ComponentLink3URL: http://www.national.com/packaging/folders/mf05a.html
footprint MF05A_N (SOT23, 5-Leads, Body 2.9x1.6mm, Pitch 0.95mm, Lead Span 2.8mm, IPC Medium Density)
footprint MF05A_L (SOT23, 5-Leads, Body 2.9x1.6mm, Pitch 0.95mm, Lead Span 2.8mm, IPC High Density)
footprint MF05A_M (SOT23, 5-Leads, Body 2.9x1.6mm, Pitch 0.95mm, Lead Span 2.8mm, IPC Low Density)
pins: 1 IN (power), 2 GND (power), 3 ON/~{OFF} (in), 4 NC, 5 OUT (power)

## LP2981AIM5-2.8
designator U?
Micropower 100 mA Ultra Low-Dropout Regulator in SOT-23 and micro SMD Packages; PartNumber: LP2981AIM5-2.8; Manufacturer: National Semiconductor; CompType: LDO IC; PackageTopMarking: L77A*XTT; Published: 4-Dec-2008; DatasheetVersion: Feb-2006; PackageVersion: revD, Aug-2008; PackageReference: MF05A; Publisher: Altium Limited; PackageDescription: Molded SOT-23, .115 x .063 x .040 in Body, 5 Lead, .0375 in Pitch; RoHS: Y; PinCount: 5; DigiKeyPartNumber: LP2981AIM5-2.8CT-ND; Code_IPC: SOT23-5; ComponentLink1Description: LP2981 Datasheet; ComponentLink1URL: http://www.national.com/ds/LP/LP2981.pdf; ComponentLink2Description: LP2981 Web Page; ComponentLink2URL: http://www.national.com/pf/LP/LP2981.html; ComponentLink3Description: MF05A Package Page; ComponentLink3URL: http://www.national.com/packaging/folders/mf05a.html
footprint MF05A_N (SOT23, 5-Leads, Body 2.9x1.6mm, Pitch 0.95mm, Lead Span 2.8mm, IPC Medium Density)
footprint MF05A_L (SOT23, 5-Leads, Body 2.9x1.6mm, Pitch 0.95mm, Lead Span 2.8mm, IPC High Density)
footprint MF05A_M (SOT23, 5-Leads, Body 2.9x1.6mm, Pitch 0.95mm, Lead Span 2.8mm, IPC Low Density)
pins: 1 IN (power), 2 GND (power), 3 ON/~{OFF} (in), 4 NC, 5 OUT (power)

## LP2981AIM5-3.0
designator U?
Micropower 100 mA Ultra Low-Dropout Regulator in SOT-23 and micro SMD Packages; PartNumber: LP2981AIM5-3.0; Manufacturer: National Semiconductor; CompType: LDO IC; PackageTopMarking: L05A*XTT; Published: 4-Dec-2008; DatasheetVersion: Feb-2006; PackageVersion: revD, Aug-2008; PackageReference: MF05A; Publisher: Altium Limited; PackageDescription: Molded SOT-23, .115 x .063 x .040 in Body, 5 Lead, .0375 in Pitch; RoHS: Y; PinCount: 5; DigiKeyPartNumber: LP2981AIM5-3.0CT-ND; Code_IPC: SOT23-5; ComponentLink1Description: LP2981 Datasheet; ComponentLink1URL: http://www.national.com/ds/LP/LP2981.pdf; ComponentLink2Description: LP2981 Web Page; ComponentLink2URL: http://www.national.com/pf/LP/LP2981.html; ComponentLink3Description: MF05A Package Page; ComponentLink3URL: http://www.national.com/packaging/folders/mf05a.html
footprint MF05A_N (SOT23, 5-Leads, Body 2.9x1.6mm, Pitch 0.95mm, Lead Span 2.8mm, IPC Medium Density)
footprint MF05A_L (SOT23, 5-Leads, Body 2.9x1.6mm, Pitch 0.95mm, Lead Span 2.8mm, IPC High Density)
footprint MF05A_M (SOT23, 5-Leads, Body 2.9x1.6mm, Pitch 0.95mm, Lead Span 2.8mm, IPC Low Density)
pins: 1 IN (power), 2 GND (power), 3 ON/~{OFF} (in), 4 NC, 5 OUT (power)

## LP2981AIM5-3.2
designator U?
Micropower 100 mA Ultra Low-Dropout Regulator in SOT-23 and micro SMD Packages; PartNumber: LP2981AIM5-3.2; Manufacturer: National Semiconductor; CompType: LDO IC; PackageTopMarking: L35A*XTT; Published: 4-Dec-2008; DatasheetVersion: Feb-2006; PackageVersion: revD, Aug-2008; PackageReference: MF05A; Publisher: Altium Limited; PackageDescription: Molded SOT-23, .115 x .063 x .040 in Body, 5 Lead, .0375 in Pitch; RoHS: N; PinCount: 5; DigiKeyPartNumber: LP2981AIM5-3.2CT-ND; Code_IPC: SOT23-5; ComponentLink1Description: LP2981 Datasheet; ComponentLink1URL: http://www.national.com/ds/LP/LP2981.pdf; ComponentLink2Description: LP2981 Web Page; ComponentLink2URL: http://www.national.com/pf/LP/LP2981.html; ComponentLink3Description: MF05A Package Page; ComponentLink3URL: http://www.national.com/packaging/folders/mf05a.html
footprint MF05A_N (SOT23, 5-Leads, Body 2.9x1.6mm, Pitch 0.95mm, Lead Span 2.8mm, IPC Medium Density)
footprint MF05A_L (SOT23, 5-Leads, Body 2.9x1.6mm, Pitch 0.95mm, Lead Span 2.8mm, IPC High Density)
footprint MF05A_M (SOT23, 5-Leads, Body 2.9x1.6mm, Pitch 0.95mm, Lead Span 2.8mm, IPC Low Density)
pins: 1 IN (power), 2 GND (power), 3 ON/~{OFF} (in), 4 NC, 5 OUT (power)

## LP2981AIM5-3.3
designator U?
Micropower 100 mA Ultra Low-Dropout Regulator in SOT-23 and micro SMD Packages; PartNumber: LP2981AIM5-3.3; Manufacturer: National Semiconductor; CompType: LDO IC; PackageTopMarking: L04A*XTT; Published: 4-Dec-2008; DatasheetVersion: Feb-2006; PackageVersion: revD, Aug-2008; PackageReference: MF05A; Publisher: Altium Limited; PackageDescription: Molded SOT-23, .115 x .063 x .040 in Body, 5 Lead, .0375 in Pitch; RoHS: O; PinCount: 5; DigiKeyPartNumber: LP2981AIM5-3.3TR-ND; Code_IPC: SOT23-5; ComponentLink1Description: LP2981 Datasheet; ComponentLink1URL: http://www.national.com/ds/LP/LP2981.pdf; ComponentLink2Description: LP2981 Web Page; ComponentLink2URL: http://www.national.com/pf/LP/LP2981.html; ComponentLink3Description: MF05A Package Page; ComponentLink3URL: http://www.national.com/packaging/folders/mf05a.html
footprint MF05A_N (SOT23, 5-Leads, Body 2.9x1.6mm, Pitch 0.95mm, Lead Span 2.8mm, IPC Medium Density)
footprint MF05A_L (SOT23, 5-Leads, Body 2.9x1.6mm, Pitch 0.95mm, Lead Span 2.8mm, IPC High Density)
footprint MF05A_M (SOT23, 5-Leads, Body 2.9x1.6mm, Pitch 0.95mm, Lead Span 2.8mm, IPC Low Density)
pins: 1 IN (power), 2 GND (power), 3 ON/~{OFF} (in), 4 NC, 5 OUT (power)

## LP2981AIM5-3.6
designator U?
Micropower 100 mA Ultra Low-Dropout Regulator in SOT-23 and micro SMD Packages; PartNumber: LP2981AIM5-3.6; Manufacturer: National Semiconductor; CompType: LDO IC; PackageTopMarking: L0JA*XTT; Published: 4-Dec-2008; DatasheetVersion: Feb-2006; PackageVersion: revD, Aug-2008; PackageReference: MF05A; Publisher: Altium Limited; PackageDescription: Molded SOT-23, .115 x .063 x .040 in Body, 5 Lead, .0375 in Pitch; RoHS: Y; PinCount: 5; DigiKeyPartNumber: LP2981AIM5-3.6CT-ND; Code_IPC: SOT23-5; ComponentLink1Description: LP2981 Datasheet; ComponentLink1URL: http://www.national.com/ds/LP/LP2981.pdf; ComponentLink2Description: LP2981 Web Page; ComponentLink2URL: http://www.national.com/pf/LP/LP2981.html; ComponentLink3Description: MF05A Package Page; ComponentLink3URL: http://www.national.com/packaging/folders/mf05a.html
footprint MF05A_N (SOT23, 5-Leads, Body 2.9x1.6mm, Pitch 0.95mm, Lead Span 2.8mm, IPC Medium Density)
footprint MF05A_L (SOT23, 5-Leads, Body 2.9x1.6mm, Pitch 0.95mm, Lead Span 2.8mm, IPC High Density)
footprint MF05A_M (SOT23, 5-Leads, Body 2.9x1.6mm, Pitch 0.95mm, Lead Span 2.8mm, IPC Low Density)
pins: 1 IN (power), 2 GND (power), 3 ON/~{OFF} (in), 4 NC, 5 OUT (power)

## LP2981AIM5-3.8
designator U?
Micropower 100 mA Ultra Low-Dropout Regulator in SOT-23 and micro SMD Packages; PartNumber: LP2981AIM5-3.8; Manufacturer: National Semiconductor; CompType: LDO IC; PackageTopMarking: L36A*XTT; Published: 4-Dec-2008; DatasheetVersion: Feb-2006; PackageVersion: revD, Aug-2008; PackageReference: MF05A; Publisher: Altium Limited; PackageDescription: Molded SOT-23, .115 x .063 x .040 in Body, 5 Lead, .0375 in Pitch; RoHS: Y; PinCount: 5; DigiKeyPartNumber: LP2981AIM5-3.8CT-ND; Code_IPC: SOT23-5; ComponentLink1Description: LP2981 Datasheet; ComponentLink1URL: http://www.national.com/ds/LP/LP2981.pdf; ComponentLink2Description: LP2981 Web Page; ComponentLink2URL: http://www.national.com/pf/LP/LP2981.html; ComponentLink3Description: MF05A Package Page; ComponentLink3URL: http://www.national.com/packaging/folders/mf05a.html
footprint MF05A_N (SOT23, 5-Leads, Body 2.9x1.6mm, Pitch 0.95mm, Lead Span 2.8mm, IPC Medium Density)
footprint MF05A_L (SOT23, 5-Leads, Body 2.9x1.6mm, Pitch 0.95mm, Lead Span 2.8mm, IPC High Density)
footprint MF05A_M (SOT23, 5-Leads, Body 2.9x1.6mm, Pitch 0.95mm, Lead Span 2.8mm, IPC Low Density)
pins: 1 IN (power), 2 GND (power), 3 ON/~{OFF} (in), 4 NC, 5 OUT (power)

## LP2981AIM5-5.0
designator U?
Micropower 100 mA Ultra Low-Dropout Regulator in SOT-23 and micro SMD Packages; PartNumber: LP2981AIM5-5.0; Manufacturer: National Semiconductor; CompType: LDO IC; PackageTopMarking: L03A*XTT; Published: 4-Dec-2008; DatasheetVersion: Feb-2006; PackageVersion: revD, Aug-2008; PackageReference: MF05A; Publisher: Altium Limited; PackageDescription: Molded SOT-23, .115 x .063 x .040 in Body, 5 Lead, .0375 in Pitch; RoHS: O; PinCount: 5; DigiKeyPartNumber: LP2981AIM5-5.0CT-ND; Code_IPC: SOT23-5; ComponentLink1Description: LP2981 Datasheet; ComponentLink1URL: http://www.national.com/ds/LP/LP2981.pdf; ComponentLink2Description: LP2981 Web Page; ComponentLink2URL: http://www.national.com/pf/LP/LP2981.html; ComponentLink3Description: MF05A Package Page; ComponentLink3URL: http://www.national.com/packaging/folders/mf05a.html
footprint MF05A_N (SOT23, 5-Leads, Body 2.9x1.6mm, Pitch 0.95mm, Lead Span 2.8mm, IPC Medium Density)
footprint MF05A_L (SOT23, 5-Leads, Body 2.9x1.6mm, Pitch 0.95mm, Lead Span 2.8mm, IPC High Density)
footprint MF05A_M (SOT23, 5-Leads, Body 2.9x1.6mm, Pitch 0.95mm, Lead Span 2.8mm, IPC Low Density)
pins: 1 IN (power), 2 GND (power), 3 ON/~{OFF} (in), 4 NC, 5 OUT (power)

## LP2981IM5-2.5
designator U?
Micropower 100 mA Ultra Low-Dropout Regulator in SOT-23 and micro SMD Packages; PartNumber: LP2981IM5-2.5; Manufacturer: National Semiconductor; CompType: LDO IC; PackageTopMarking: L0CB*XTT; Published: 4-Dec-2008; DatasheetVersion: Feb-2006; PackageVersion: revD, Aug-2008; PackageReference: MF05A; Publisher: Altium Limited; PackageDescription: Molded SOT-23, .115 x .063 x .040 in Body, 5 Lead, .0375 in Pitch; RoHS: O; PinCount: 5; DigiKeyPartNumber: LP2981IM5-2.5CT-ND; Code_IPC: SOT23-5; ComponentLink1Description: LP2981 Datasheet; ComponentLink1URL: http://www.national.com/ds/LP/LP2981.pdf; ComponentLink2Description: LP2981 Web Page; ComponentLink2URL: http://www.national.com/pf/LP/LP2981.html; ComponentLink3Description: MF05A Package Page; ComponentLink3URL: http://www.national.com/packaging/folders/mf05a.html
footprint MF05A_N (SOT23, 5-Leads, Body 2.9x1.6mm, Pitch 0.95mm, Lead Span 2.8mm, IPC Medium Density)
footprint MF05A_L (SOT23, 5-Leads, Body 2.9x1.6mm, Pitch 0.95mm, Lead Span 2.8mm, IPC High Density)
footprint MF05A_M (SOT23, 5-Leads, Body 2.9x1.6mm, Pitch 0.95mm, Lead Span 2.8mm, IPC Low Density)
pins: 1 IN (power), 2 GND (power), 3 ON/~{OFF} (in), 4 NC, 5 OUT (power)

## LP2981IM5-2.7
designator U?
Micropower 100 mA Ultra Low-Dropout Regulator in SOT-23 and micro SMD Packages; PartNumber: LP2981IM5-2.7; Manufacturer: National Semiconductor; CompType: LDO IC; PackageTopMarking: L0DB*XTT; Published: 4-Dec-2008; DatasheetVersion: Feb-2006; PackageVersion: revD, Aug-2008; PackageReference: MF05A; Publisher: Altium Limited; PackageDescription: Molded SOT-23, .115 x .063 x .040 in Body, 5 Lead, .0375 in Pitch; RoHS: Y; PinCount: 5; DigiKeyPartNumber: LP2981IM5-2.7CT-ND; Code_IPC: SOT23-5; ComponentLink1Description: LP2981 Datasheet; ComponentLink1URL: http://www.national.com/ds/LP/LP2981.pdf; ComponentLink2Description: LP2981 Web Page; ComponentLink2URL: http://www.national.com/pf/LP/LP2981.html; ComponentLink3Description: MF05A Package Page; ComponentLink3URL: http://www.national.com/packaging/folders/mf05a.html
footprint MF05A_N (SOT23, 5-Leads, Body 2.9x1.6mm, Pitch 0.95mm, Lead Span 2.8mm, IPC Medium Density)
footprint MF05A_L (SOT23, 5-Leads, Body 2.9x1.6mm, Pitch 0.95mm, Lead Span 2.8mm, IPC High Density)
footprint MF05A_M (SOT23, 5-Leads, Body 2.9x1.6mm, Pitch 0.95mm, Lead Span 2.8mm, IPC Low Density)
pins: 1 IN (power), 2 GND (power), 3 ON/~{OFF} (in), 4 NC, 5 OUT (power)

## LP2981IM5-2.8
designator U?
Micropower 100 mA Ultra Low-Dropout Regulator in SOT-23 and micro SMD Packages; PartNumber: LP2981IM5-2.8; Manufacturer: National Semiconductor; CompType: LDO IC; PackageTopMarking: L77B*XTT; Published: 4-Dec-2008; DatasheetVersion: Feb-2006; PackageVersion: revD, Aug-2008; PackageReference: MF05A; Publisher: Altium Limited; PackageDescription: Molded SOT-23, .115 x .063 x .040 in Body, 5 Lead, .0375 in Pitch; RoHS: Y; PinCount: 5; DigiKeyPartNumber: LP2981IM5-2.8CT-ND; Code_IPC: SOT23-5; ComponentLink1Description: LP2981 Datasheet; ComponentLink1URL: http://www.national.com/ds/LP/LP2981.pdf; ComponentLink2Description: LP2981 Web Page; ComponentLink2URL: http://www.national.com/pf/LP/LP2981.html; ComponentLink3Description: MF05A Package Page; ComponentLink3URL: http://www.national.com/packaging/folders/mf05a.html
footprint MF05A_N (SOT23, 5-Leads, Body 2.9x1.6mm, Pitch 0.95mm, Lead Span 2.8mm, IPC Medium Density)
footprint MF05A_L (SOT23, 5-Leads, Body 2.9x1.6mm, Pitch 0.95mm, Lead Span 2.8mm, IPC High Density)
footprint MF05A_M (SOT23, 5-Leads, Body 2.9x1.6mm, Pitch 0.95mm, Lead Span 2.8mm, IPC Low Density)
pins: 1 IN (power), 2 GND (power), 3 ON/~{OFF} (in), 4 NC, 5 OUT (power)

## LP2981IM5-3.0
designator U?
Micropower 100 mA Ultra Low-Dropout Regulator in SOT-23 and micro SMD Packages; PartNumber: LP2981IM5-3.0; Manufacturer: National Semiconductor; CompType: LDO IC; PackageTopMarking: L05B*XTT; Published: 4-Dec-2008; DatasheetVersion: Feb-2006; PackageVersion: revD, Aug-2008; PackageReference: MF05A; Publisher: Altium Limited; PackageDescription: Molded SOT-23, .115 x .063 x .040 in Body, 5 Lead, .0375 in Pitch; RoHS: Y; PinCount: 5; DigiKeyPartNumber: LP2981IM5-3.0CT-ND; Code_IPC: SOT23-5; ComponentLink1Description: LP2981 Datasheet; ComponentLink1URL: http://www.national.com/ds/LP/LP2981.pdf; ComponentLink2Description: LP2981 Web Page; ComponentLink2URL: http://www.national.com/pf/LP/LP2981.html; ComponentLink3Description: MF05A Package Page; ComponentLink3URL: http://www.national.com/packaging/folders/mf05a.html
footprint MF05A_N (SOT23, 5-Leads, Body 2.9x1.6mm, Pitch 0.95mm, Lead Span 2.8mm, IPC Medium Density)
footprint MF05A_L (SOT23, 5-Leads, Body 2.9x1.6mm, Pitch 0.95mm, Lead Span 2.8mm, IPC High Density)
footprint MF05A_M (SOT23, 5-Leads, Body 2.9x1.6mm, Pitch 0.95mm, Lead Span 2.8mm, IPC Low Density)
pins: 1 IN (power), 2 GND (power), 3 ON/~{OFF} (in), 4 NC, 5 OUT (power)

## LP2981IM5-3.2
designator U?
Micropower 100 mA Ultra Low-Dropout Regulator in SOT-23 and micro SMD Packages; PartNumber: LP2981IM5-3.2; Manufacturer: National Semiconductor; CompType: LDO IC; PackageTopMarking: L35B*XTT; Published: 4-Dec-2008; DatasheetVersion: Feb-2006; PackageVersion: revD, Aug-2008; PackageReference: MF05A; Publisher: Altium Limited; PackageDescription: Molded SOT-23, .115 x .063 x .040 in Body, 5 Lead, .0375 in Pitch; RoHS: Y; PinCount: 5; DigiKeyPartNumber: LP2981IM5-3.2CT-ND; Code_IPC: SOT23-5; ComponentLink1Description: LP2981 Datasheet; ComponentLink1URL: http://www.national.com/ds/LP/LP2981.pdf; ComponentLink2Description: LP2981 Web Page; ComponentLink2URL: http://www.national.com/pf/LP/LP2981.html; ComponentLink3Description: MF05A Package Page; ComponentLink3URL: http://www.national.com/packaging/folders/mf05a.html
footprint MF05A_N (SOT23, 5-Leads, Body 2.9x1.6mm, Pitch 0.95mm, Lead Span 2.8mm, IPC Medium Density)
footprint MF05A_L (SOT23, 5-Leads, Body 2.9x1.6mm, Pitch 0.95mm, Lead Span 2.8mm, IPC High Density)
footprint MF05A_M (SOT23, 5-Leads, Body 2.9x1.6mm, Pitch 0.95mm, Lead Span 2.8mm, IPC Low Density)
pins: 1 IN (power), 2 GND (power), 3 ON/~{OFF} (in), 4 NC, 5 OUT (power)

## LP2981IM5-3.3
designator U?
Micropower 100 mA Ultra Low-Dropout Regulator in SOT-23 and micro SMD Packages; PartNumber: LP2981IM5-3.3; Manufacturer: National Semiconductor; CompType: LDO IC; PackageTopMarking: L04B*XTT; Published: 4-Dec-2008; DatasheetVersion: Feb-2006; PackageVersion: revD, Aug-2008; PackageReference: MF05A; Publisher: Altium Limited; PackageDescription: Molded SOT-23, .115 x .063 x .040 in Body, 5 Lead, .0375 in Pitch; RoHS: O; PinCount: 5; DigiKeyPartNumber: LP2981IM5-3.3TR-ND; Code_IPC: SOT23-5; ComponentLink1Description: LP2981 Datasheet; ComponentLink1URL: http://www.national.com/ds/LP/LP2981.pdf; ComponentLink2Description: LP2981 Web Page; ComponentLink2URL: http://www.national.com/pf/LP/LP2981.html; ComponentLink3Description: MF05A Package Page; ComponentLink3URL: http://www.national.com/packaging/folders/mf05a.html
footprint MF05A_N (SOT23, 5-Leads, Body 2.9x1.6mm, Pitch 0.95mm, Lead Span 2.8mm, IPC Medium Density)
footprint MF05A_L (SOT23, 5-Leads, Body 2.9x1.6mm, Pitch 0.95mm, Lead Span 2.8mm, IPC High Density)
footprint MF05A_M (SOT23, 5-Leads, Body 2.9x1.6mm, Pitch 0.95mm, Lead Span 2.8mm, IPC Low Density)
pins: 1 IN (power), 2 GND (power), 3 ON/~{OFF} (in), 4 NC, 5 OUT (power)

## LP2981IM5-3.6
designator U?
Micropower 100 mA Ultra Low-Dropout Regulator in SOT-23 and micro SMD Packages; PartNumber: LP2981IM5-3.6; Manufacturer: National Semiconductor; CompType: LDO IC; PackageTopMarking: L0JB*XTT; Published: 4-Dec-2008; DatasheetVersion: Feb-2006; PackageVersion: revD, Aug-2008; PackageReference: MF05A; Publisher: Altium Limited; PackageDescription: Molded SOT-23, .115 x .063 x .040 in Body, 5 Lead, .0375 in Pitch; RoHS: O; PinCount: 5; DigiKeyPartNumber: LP2981IM5-3.6CT-ND; Code_IPC: SOT23-5; ComponentLink1Description: LP2981 Datasheet; ComponentLink1URL: http://www.national.com/ds/LP/LP2981.pdf; ComponentLink2Description: LP2981 Web Page; ComponentLink2URL: http://www.national.com/pf/LP/LP2981.html; ComponentLink3Description: MF05A Package Page; ComponentLink3URL: http://www.national.com/packaging/folders/mf05a.html
footprint MF05A_N (SOT23, 5-Leads, Body 2.9x1.6mm, Pitch 0.95mm, Lead Span 2.8mm, IPC Medium Density)
footprint MF05A_L (SOT23, 5-Leads, Body 2.9x1.6mm, Pitch 0.95mm, Lead Span 2.8mm, IPC High Density)
footprint MF05A_M (SOT23, 5-Leads, Body 2.9x1.6mm, Pitch 0.95mm, Lead Span 2.8mm, IPC Low Density)
pins: 1 IN (power), 2 GND (power), 3 ON/~{OFF} (in), 4 NC, 5 OUT (power)

## LP2981IM5-3.8
designator U?
Micropower 100 mA Ultra Low-Dropout Regulator in SOT-23 and micro SMD Packages; PartNumber: LP2981IM5-3.8; Manufacturer: National Semiconductor; CompType: LDO IC; PackageTopMarking: L36B*XTT; Published: 4-Dec-2008; DatasheetVersion: Feb-2006; PackageVersion: revD, Aug-2008; PackageReference: MF05A; Publisher: Altium Limited; PackageDescription: Molded SOT-23, .115 x .063 x .040 in Body, 5 Lead, .0375 in Pitch; RoHS: Y; PinCount: 5; DigiKeyPartNumber: LP2981IM5-3.8CT-ND; Code_IPC: SOT23-5; ComponentLink1Description: LP2981 Datasheet; ComponentLink1URL: http://www.national.com/ds/LP/LP2981.pdf; ComponentLink2Description: LP2981 Web Page; ComponentLink2URL: http://www.national.com/pf/LP/LP2981.html; ComponentLink3Description: MF05A Package Page; ComponentLink3URL: http://www.national.com/packaging/folders/mf05a.html
footprint MF05A_N (SOT23, 5-Leads, Body 2.9x1.6mm, Pitch 0.95mm, Lead Span 2.8mm, IPC Medium Density)
footprint MF05A_L (SOT23, 5-Leads, Body 2.9x1.6mm, Pitch 0.95mm, Lead Span 2.8mm, IPC High Density)
footprint MF05A_M (SOT23, 5-Leads, Body 2.9x1.6mm, Pitch 0.95mm, Lead Span 2.8mm, IPC Low Density)
pins: 1 IN (power), 2 GND (power), 3 ON/~{OFF} (in), 4 NC, 5 OUT (power)

## LP2981IM5-5.0
designator U?
Micropower 100 mA Ultra Low-Dropout Regulator in SOT-23 and micro SMD Packages; PartNumber: LP2981IM5-5.0; Manufacturer: National Semiconductor; CompType: LDO IC; PackageTopMarking: L03B*XTT; Published: 4-Dec-2008; DatasheetVersion: Feb-2006; PackageVersion: revD, Aug-2008; PackageReference: MF05A; Publisher: Altium Limited; PackageDescription: Molded SOT-23, .115 x .063 x .040 in Body, 5 Lead, .0375 in Pitch; RoHS: O; PinCount: 5; DigiKeyPartNumber: LP2981IM5-5.0CT-ND; Code_IPC: SOT23-5; ComponentLink1Description: LP2981 Datasheet; ComponentLink1URL: http://www.national.com/ds/LP/LP2981.pdf; ComponentLink2Description: LP2981 Web Page; ComponentLink2URL: http://www.national.com/pf/LP/LP2981.html; ComponentLink3Description: MF05A Package Page; ComponentLink3URL: http://www.national.com/packaging/folders/mf05a.html
footprint MF05A_N (SOT23, 5-Leads, Body 2.9x1.6mm, Pitch 0.95mm, Lead Span 2.8mm, IPC Medium Density)
footprint MF05A_L (SOT23, 5-Leads, Body 2.9x1.6mm, Pitch 0.95mm, Lead Span 2.8mm, IPC High Density)
footprint MF05A_M (SOT23, 5-Leads, Body 2.9x1.6mm, Pitch 0.95mm, Lead Span 2.8mm, IPC Low Density)
pins: 1 IN (power), 2 GND (power), 3 ON/~{OFF} (in), 4 NC, 5 OUT (power)